# Altium footprint library Lakota_PCB.PcbLib: 15 footprints
Each footprint in its own frame and in the unit in brackets; x right, y up, seen from the top. Pads: shape width x height; smd on the part's side, far side on the other; paste and mask are expansions set on the pad; w line width, h text height; cw(c..) or ccw(c..) is an arc to the next point about the centre after c.
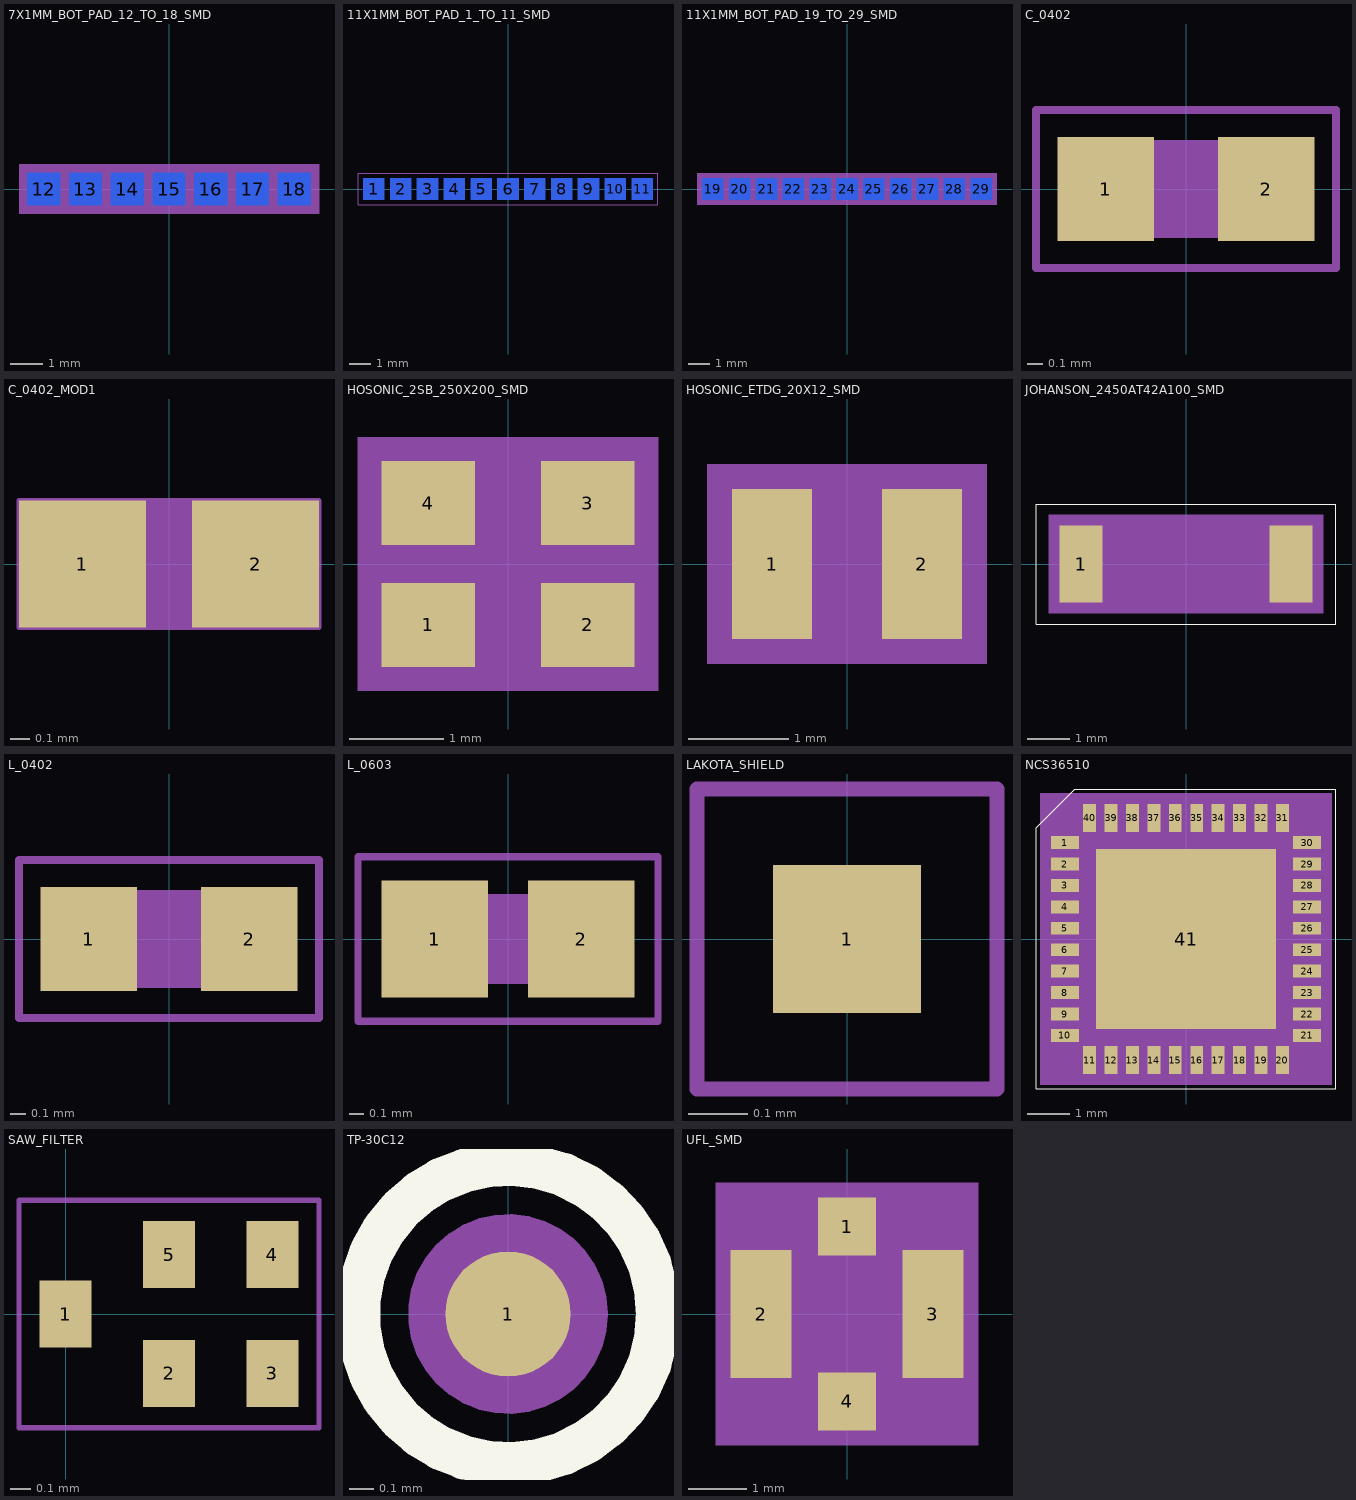
[diagram p0: the footprints below, top view; thin cyan lines are the x and y axes]

## 7X1MM_BOT_PAD_12_TO_18_SMD [mm] "7X1MM_BOT_PAD_12_TO_18_SMD"
pads (7):
  rect 1x1 smd far side: 12(-3.81,0) 13(-2.54,0) 14(-1.27,0) 15(0,0) 16(1.27,0) 17(2.54,0) 18(3.81,0)
Top Overlay:
  text ".Designator" at 0.579,-0.241 h0.64
Mechanical 9:
  text "17" at 2.54,0.508 h0.64
  text "12" at -3.81,0.508 h0.64
  text "13" at -2.54,0.508 h0.64
  text "14" at -1.27,0.508 h0.64
  text "15" at 0,0.508 h0.64
  text "16" at 1.27,0.508 h0.64
  text "18" at 3.81,0.508 h0.64
Mechanical 12:
  region: -4.56,-0.75 4.56,-0.75 4.56,0.75 -4.56,0.75

## 11X1MM_BOT_PAD_1_TO_11_SMD [mm] "11X1MM_BOT_PAD_1_TO_11_SMD"
pads (11):
  rect 1x1 smd far side: 1(-6.35,0) 2(-5.08,0) 3(-3.81,0) 4(-2.54,0) 5(-1.27,0) 6(0,0) 7(1.27,0) 8(2.54,0) 9(3.81,0) 10(5.08,0) 11(6.35,0)
Top Overlay:
  text ".Designator" at -1.135,-0.789 h0.64
Mechanical 9:
  text "7" at 1.016,0 h0.64
  text "8" at 2.286,0 h0.64
  text "9" at 3.556,0 h0.64
  text "11" at 5.842,0 h0.64
  text "1" at -6.604,0 h0.64
  text "6" at -0.254,0 h0.64
  text "5" at -1.524,0 h0.64
  text "10" at 4.572,0 h0.64
  text "2" at -5.334,0 h0.64
  text "4" at -2.794,0 h0.64
  text "3" at -4.064,0 h0.64
Mechanical 12:
  lines w0.025: -7.1,-0.75 7.1,-0.75 7.1,0.75 -7.1,0.75 -7.1,-0.75

## 11X1MM_BOT_PAD_19_TO_29_SMD [mm] "11X1MM_BOT_PAD_19_TO_29_SMD"
pads (11):
  rect 1x1 smd far side: 19(-6.35,0) 20(-5.08,0) 21(-3.81,0) 22(-2.54,0) 23(-1.27,0) 24(0,0) 25(1.27,0) 26(2.54,0) 27(3.81,0) 28(5.08,0) 29(6.35,0)
Top Overlay:
  text ".Designator" at 0.52,-0.165 h0.64
Mechanical 9:
  text "23" at -0.762,0 h0.64
  text "22" at -2.032,0 h0.64
  text "27" at 4.318,0 h0.64
  text "26" at 3.048,0 h0.64
  text "20" at -4.572,0 h0.64
  text "25" at 1.778,0 h0.64
  text "28" at 5.588,0 h0.64
  text "29" at 6.858,0 h0.64
  text "19" at -5.842,0 h0.64
  text "24" at 0.508,0 h0.64
  text "21" at -3.302,0 h0.64
Mechanical 12:
  region: -7.1,-0.75 7.1,-0.75 7.1,0.75 -7.1,0.75

## C_0402 [mil] "C_0402"
pads (2):
  rect 24x26 smd: 1(-20,0) 2(20,0)
Top Overlay:
  text ".Designator" at -23.62,62.99 h25
Mechanical 9:
  text "2" at 20,-20 h25
  text "1" at -20,-20 h25
Mechanical 10:
  lines w1.97: -37.4,-19.69 37.4,-19.69 37.4,19.69 -37.4,19.69 -37.4,-19.69
Mechanical 11:
  pour cut-out: -30.12,-12.2 -30.12,12.2 -4.53,12.2 4.53,12.2 30.12,12.2 30.12,-12.2 4.53,-12.2 -4.53,-12.2
Mechanical 12:
  region: -19.69,-9.84 -19.69,9.84 19.69,9.84 19.69,-9.84

## C_0402_MOD1 [mm] "C_0402_MOD1"
pads (2):
  rect 0.66x0.66 smd: 1(-0.45,0) 2(0.45,0)
Top Overlay:
  text ".Designator" at -0.6,1.6 h0.64
Mechanical 9:
  text "2" at 0.45,-0.254 h0.64
  text "1" at -0.45,-0.254 h0.64
Mechanical 10:
  lines w0.025: -0.78,-0.33 -0.78,0.33 0.78,0.33 0.78,-0.33 -0.78,-0.33
Mechanical 12:
  region: -0.78,-0.33 0.78,-0.33 0.78,0.33 -0.78,0.33

## HOSONIC_2SB_250X200_SMD [mm] "HOSONIC_2SB_250X200_SMD"
pads (4):
  rect 1x0.9 smd: 1(-0.85,-0.65) 2(0.85,-0.65) 3(0.85,0.65) 4(-0.85,0.65)
Top Overlay:
  text ".Designator" at 0.476,0.315 h0.64
Mechanical 9:
  text "4" at -0.596,0.65 h0.64
  text "1" at -0.596,-0.65 h0.64
  text "3" at 1.104,0.65 h0.64
  text "2" at 1.104,-0.65 h0.64
Mechanical 10:
  lines w0.025: -1.35,-0.465 -1.35,1.1 1.35,1.1 1.35,-1.1 -0.715,-1.1 -1.35,-0.465
  text "1" at -1.07,-0.7 h0.64
Mechanical 12:
  region: -1.6,-1.35 1.6,-1.35 1.6,1.35 -1.6,1.35

## HOSONIC_ETDG_20X12_SMD [mil] "HOSONIC_ETDG_20X12_SMD"
pads (2):
  rect 31.5x59.06 smd: 1(-29.53,0) 2(29.53,0)
Top Overlay:
  text ".Designator" at 9.78,-13.54 h25
Mechanical 9:
  text "2" at 39.53,0 h25
  text "1" at -19.53,0 h25
Mechanical 10:
  lines w1: -45.28,-29.53 45.28,-29.53 45.28,29.53 -45.28,29.53 -45.28,-29.53
Mechanical 12:
  region: -55.12,-39.37 55.12,-39.37 55.12,39.37 -55.12,39.37

## JOHANSON_2450AT42A100_SMD [mm] "JOHANSON_2450AT42A100_SMD"
pads (2):
  rect 1x1.8 smd: 1(-2.45,0) " "(2.45,0)
Top Overlay:
  lines w0.025: -3.5,-1.4 -3.5,1.4 3.5,1.4 3.5,-1.4 -3.5,-1.4
  text ".Designator" at -1.143,-0.282 h0.64
Mechanical 9:
  text "1" at -2.45,-0.254 h0.64
Mechanical 10:
  pour cut-out: -2.2,0.4 -2.2,-0.4 -0.6,-0.4 -0.6,0.4
  lines w0.025: -3.1,-1 -3.1,1 3.1,1 3.1,-1 -3.1,-1
Mechanical 12:
  region: -3.2,-1.15 3.2,-1.15 3.2,1.15 -3.2,1.15

## L_0402 [mil] "L_0402"
pads (2):
  rect 24x26 smd: 1(-20,0) 2(20,0)
Top Overlay:
  text ".Designator" at -18.7,-11.64 h25
Mechanical 9:
  text "2" at 20,-20 h25
  text "1" at -20,-20 h25
Mechanical 10:
  lines w1.97: -37.4,-19.69 37.4,-19.69 37.4,19.69 -37.4,19.69 -37.4,-19.69
Mechanical 11:
  pour cut-out: -30.12,-12.2 -30.12,12.2 -4.53,12.2 4.53,12.2 30.12,12.2 30.12,-12.2 4.53,-12.2 -4.53,-12.2
Mechanical 12:
  region: -19.69,-9.84 -19.69,9.84 19.69,9.84 19.69,-9.84

## L_0603 [mil] "L_0603"
pads (2):
  rect 29x32 smd: 1(-20,0) 2(20,0)
Top Overlay:
  text ".Designator" at 0,51.87 h31
Mechanical 9:
  text "2" at 20,20 h25
  text "1" at -20,20 h25
Mechanical 10:
  lines w1.97: -40.94,-22.44 -40.94,22.44 40.94,22.44 40.94,-22.44 -40.94,-22.44
Mechanical 11:
  pour cut-out: -30.12,-12.2 -30.12,12.2 -4.53,12.2 4.53,12.2 30.12,12.2 30.12,-12.2 4.53,-12.2 -4.53,-12.2
Mechanical 12:
  region: -19.69,-9.84 -19.69,9.84 19.69,9.84 19.69,-9.84

## LAKOTA_SHIELD [mm] "LAKOTA_SHIELD"
pads (1):
  rect 0.25x0.25 smd: 1(0,0)
Mechanical 9:
  text "1" at -1.778,0 h0.64
Mechanical 12:
  lines w0.025: -0.254,-0.254 -0.254,0.254 ; -0.254,-0.254 0.254,-0.254 ; -0.254,-0.254 -0.254,0.254 ; -0.254,-0.254 0.254,-0.254 ; -0.254,0.254 0.254,0.254 ; -0.254,0.254 0.254,0.254 ; 0.254,-0.254 0.254,0.254 ; 0.254,-0.254 0.254,0.254

## NCS36510 [mm] "NCS36510"
pads (41):
  rect 0.65x0.3 smd: 1(-2.825,2.25) 2(-2.825,1.75) 3(-2.825,1.25) 4(-2.825,0.75) 5(-2.825,0.25) 6(-2.825,-0.25) 7(-2.825,-0.75) 8(-2.825,-1.25) 9(-2.825,-1.75) 10(-2.825,-2.25) 21(2.825,-2.25) 22(2.825,-1.75) 23(2.825,-1.25) 24(2.825,-0.75) 25(2.825,-0.25) 26(2.825,0.25) 27(2.825,0.75) 28(2.825,1.25) 29(2.825,1.75) 30(2.825,2.25)
  rect 0.3x0.65 smd: 11(-2.25,-2.825) 12(-1.75,-2.825) 13(-1.25,-2.825) 14(-0.75,-2.825) 15(-0.25,-2.825) 16(0.25,-2.825) 17(0.75,-2.825) 18(1.25,-2.825) 19(1.75,-2.825) 20(2.25,-2.825) 31(2.25,2.825) 32(1.75,2.825) 33(1.25,2.825) 34(0.75,2.825) 35(0.25,2.825) 36(-0.25,2.825) 37(-0.75,2.825) 38(-1.25,2.825) 39(-1.75,2.825) 40(-2.25,2.825)
  rect 4.2x4.2 smd: 41(0,0)
Top Overlay:
  lines w0.025: -2.2,3.5 3.5,3.5 3.5,-3.5 -3.5,-3.5 -3.5,2.6 -2.6,3.5 -2.1,3.5
  text ".Designator" at -0.22,0.412 h0.6
Top Paste:
  drawing of 9 lines, arcs and shapes, not listed
Mechanical 9:
  text "2" at -4.125,2.23 h0.6
  text "3" at -4.125,1.73 h0.6
  text "7" at -4.125,-0.27 h0.6
  text "8" at -4.125,-0.77 h0.6
  text "10" at -4.125,-1.29 h0.6
  text "11" at -2.253,-3.165 h0.6
  text "12" at -1.753,-3.165 h0.6
  text "13" at -1.253,-3.165 h0.6
  text "14" at -0.753,-3.165 h0.6
  text "37" at -0.75,4.125 h0.6
  text "36" at -0.25,4.125 h0.6
  text "34" at 0.75,4.125 h0.6
  text "22" at 4.125,-1.745 h0.6
  text "35" at 0.25,4.125 h0.6
  text "32" at 1.75,4.125 h0.6
  text "31" at 2.25,4.125 h0.6
  text "33" at 1.25,4.125 h0.6
  text "41" at 1.3,0 h0.6
  text "30" at 4.125,2.255 h0.6
  text "29" at 4.125,1.755 h0.6
  text "27" at 4.125,0.755 h0.6
  text "28" at 4.125,1.255 h0.6
  text "26" at 4.125,0.255 h0.6
  text "25" at 4.125,-0.245 h0.6
  text "24" at 4.125,-0.745 h0.6
  text "23" at 4.125,-1.245 h0.6
  text "21" at 4.125,-2.245 h0.6
  text "20" at 2.247,-3.165 h0.6
  text "19" at 1.747,-3.165 h0.6
  text "18" at 1.247,-3.165 h0.6
  text "17" at 0.747,-3.165 h0.6
  text "16" at 0.247,-3.165 h0.6
  text "5" at -4.125,0.73 h0.6
  text "9" at -4.125,-1.27 h0.6
  text "40" at -2.25,4.125 h0.6
  text "4" at -4.125,1.23 h0.6
  text "6" at -4.125,0.23 h0.6
  text "15" at -0.253,-3.165 h0.6
  text "38" at -1.25,4.125 h0.6
  text "39" at -1.75,4.125 h0.6
  text "1" at -4.125,2.73 h0.6
Mechanical 10:
  lines w0.025: -2.8,-2.8 2.8,-2.8 2.8,2.8 -2.2,2.8 -2.8,2.2 -2.8,-2.8
Mechanical 12:
  region: 3.4,3.4 3.4,-3.4 -3.4,-3.4 -3.4,3.4

## SAW_FILTER [mm]
pads (5):
  rect 0.25x0.325 smd mask+0.025: 1(0,0) 2(0.5,-0.288) 3(1,-0.288) 4(1,0.288) 5(0.5,0.288)
Mechanical 10:
  lines w0.025: -0.225,-0.55 1.225,-0.55 1.225,0.55 -0.225,0.55 -0.225,0.162 -0.225,-0.162 -0.225,-0.55

## TP-30C12 [mil] "TP-30C12"
pads (1):
  round 20 smd: 1(0,0)
Top Overlay:
  circle w7: c0,0 r24
Mechanical 9:
  text "1" at -20,0 h25
Mechanical 10:
  circle w2: c0,0 r15
  text ".Designator" at -40.68,-14.41 h25
Mechanical 12:
  pour cut-out: 15.29,0 14.13,5.85 10.81,10.81 5.85,14.13 0,15.29 -5.85,14.13 -10.81,10.81 -14.13,5.85 -15.29,0 -14.13,-5.85 -10.81,-10.81 -5.85,-14.13 0,-15.29 5.85,-14.13 10.81,-10.81 14.13,-5.85

## UFL_SMD [mm] "UFL_SMD"
pads (4):
  rect 1x1 smd: 1(0,1.5) 4(0,-1.5)
  rect 1.05x2.2 smd: 2(-1.475,0) 3(1.475,0)
Top Overlay:
  text ".Designator" at 0.516,0.318 h0.64
Mechanical 9:
  text "4" at 0,-1.754 h0.64
  text "2" at -1.475,-0.254 h0.64
  text "3" at 1.475,-0.254 h0.64
  text "1" at 0,1.246 h0.64
Mechanical 10:
  lines w0.025: -1.5,-1.6 -1.5,1.6 0.8,1.6 1.1,1.6 1.5,1.2 1.5,-1.6 -1.5,-1.6
Mechanical 12:
  region: -2.25,-2.25 2.25,-2.25 2.25,2.25 -2.25,2.25